# Altium footprint library MOLEX_387207507.PcbLib: 1 footprints
Each footprint in its own frame and in the unit in brackets; x right, y up, seen from the top. Pads: shape width x height; smd on the part's side, far side on the other; paste and mask are expansions set on the pad; w line width, h text height; cw(c..) or ccw(c..) is an arc to the next point about the centre after c.
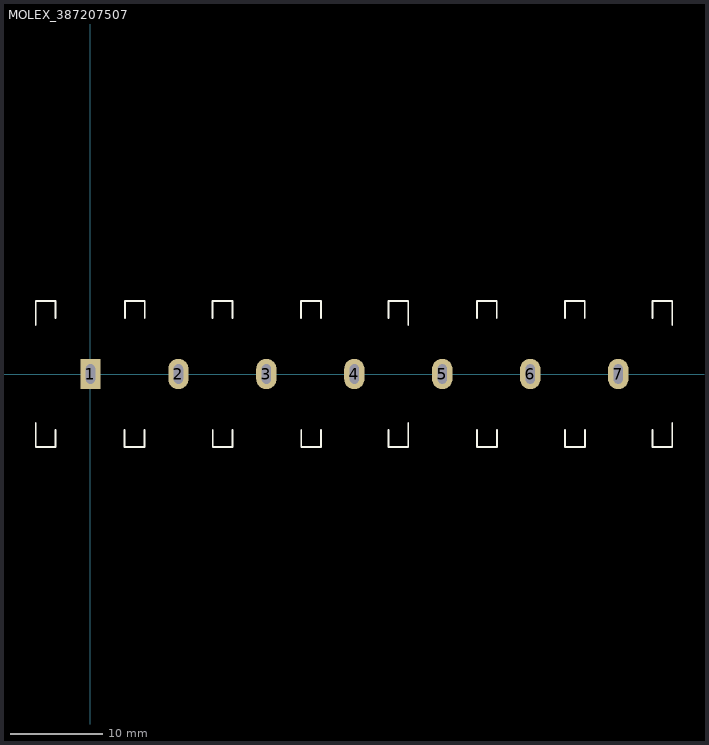
[diagram p0: the footprint, top view; thin cyan lines are the x and y axes]

## MOLEX_387207507 [mm]
pads (7):
  rect 2.2x3.3 hole 2.1 slot 1 at 0 deg: 1(0,0)
  oval 2.2x3.3 hole 2.1 slot 1 at 0 deg: 2(9.53,0) 3(19.06,0) 4(28.59,0) 5(38.12,0) 6(47.65,0) 7(57.18,0)
Top Overlay:
  lines w0.2: -5.92,-5.3 -5.92,-7.9 -3.77,-7.9 -3.77,-6.05 ; -5.92,5.3 -5.92,7.9 -3.77,7.9 -3.77,6.05 ; 3.705,-6.05 3.705,-7.9 5.855,-7.9 5.855,-6.05 ; 3.73,6.05 3.73,7.9 5.88,7.9 5.88,6.05 ; 13.23,6.05 13.23,7.9 15.38,7.9 15.38,6.05 ; 13.255,-6.05 13.255,-7.9 15.405,-7.9 15.405,-6.05 ; 22.814,6.05 22.814,7.9 24.964,7.9 24.964,6.05 ; 22.839,-6.05 22.839,-7.9 24.989,-7.9 24.989,-6.05 ; 32.287,-6.05 32.287,-7.9 34.437,-7.9 34.437,-5.3 ; 32.287,6.05 32.287,7.9 34.437,7.9 34.437,5.3 ; 41.87,6.05 41.87,7.9 44.02,7.9 44.02,6.05 ; 41.895,-6.05 41.895,-7.9 44.045,-7.9 44.045,-6.05 ; 51.404,6.05 51.404,7.9 53.554,7.9 53.554,6.05 ; 51.429,-6.05 51.429,-7.9 53.579,-7.9 53.579,-6.05 ; 60.877,-6.05 60.877,-7.9 63.027,-7.9 63.027,-5.3 ; 60.877,6.05 60.877,7.9 63.027,7.9 63.027,5.3
3D body "387207507.stp": height 16.76, standoff -4.83, extent -5.817,-7.874 63.017,7.874